# Altium footprint library Flow_Pump.PcbLib: 52 footprints (part 1 of 4)
Each footprint in its own frame and in the unit in brackets; x right, y up, seen from the top. Pads: shape width x height; smd on the part's side, far side on the other; paste and mask are expansions set on the pad; w line width, h text height; cw(c..) or ccw(c..) is an arc to the next point about the centre after c.
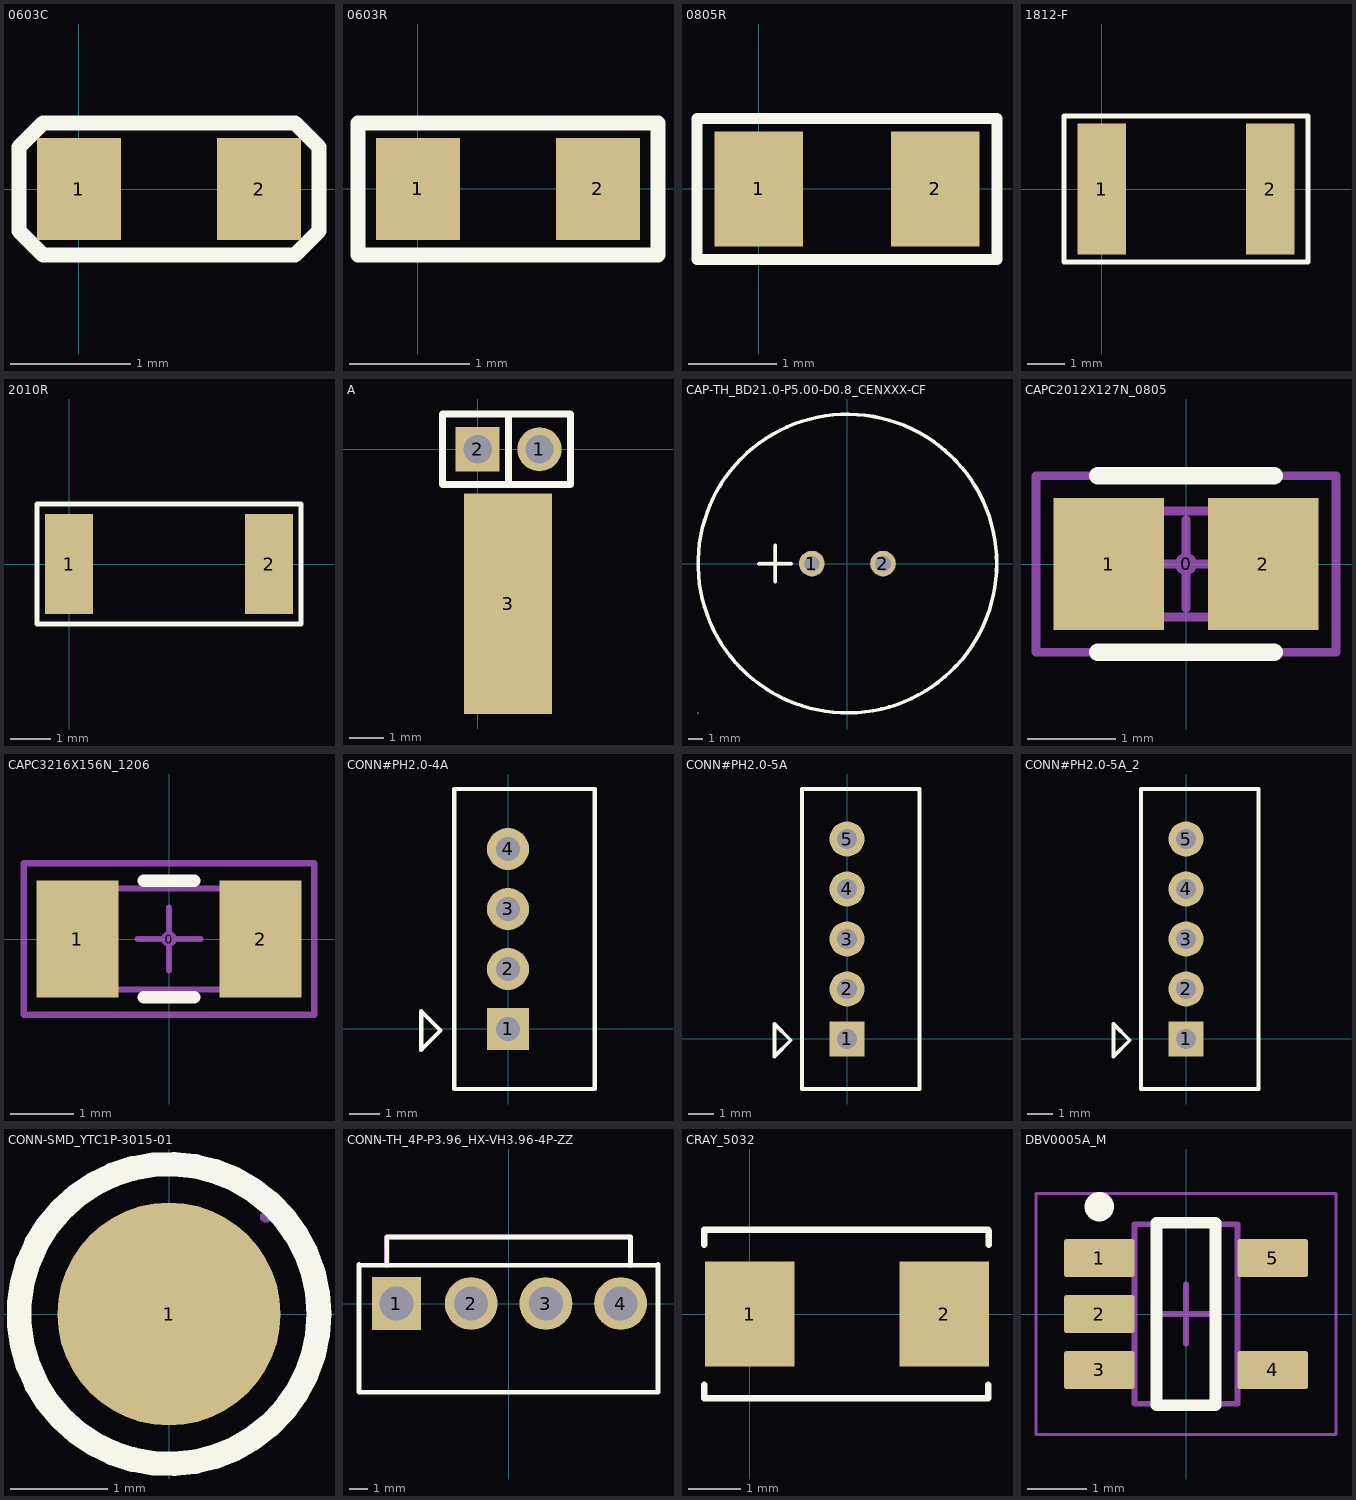
[diagram p0: the footprints below, top view; thin cyan lines are the x and y axes]

## 0603C [mm]
height 0.7
pads (2):
  rect 0.7x0.85 smd: 1(0,0) 2(1.5,0)
Top Overlay:
  lines w0.127: -0.5,-0.35 -0.3,-0.55 1.8,-0.55 2,-0.35 2,0.35 1.8,0.55 -0.3,0.55 -0.5,0.35 -0.5,-0.35

## 0603R [mm]
pads (2):
  rect 0.7x0.85 smd: 1(0,0) 2(1.5,0)
Top Overlay:
  lines w0.127: -0.5,-0.55 2,-0.55 2,0.55 -0.5,0.55 -0.5,-0.55

## 0805R [mm]
pads (2):
  rect 1x1.3 smd: 1(0,0) 2(2,0)
Top Overlay:
  lines w0.127: -0.7,-0.8 2.7,-0.8 2.7,0.8 -0.7,0.8 -0.7,-0.8 ; 2.45,-0.8 2.45,-0.8

## 1812-F [mm]
pads (2):
  rect 1.3x3.5 smd: 1(0,0) 2(4.5,0)
Top Overlay:
  lines w0.127: -1,-1.95 -1,1.95 5.5,1.95 5.5,-1.95 -1,-1.95

## 2010R [mm]
height 0.6
pads (2):
  rect 1.2x2.5 smd: 1(0,0) 2(5,0)
Top Overlay:
  lines w0.127: -0.8,-1.5 5.8,-1.5 5.8,1.5 -0.8,1.5 -0.8,-1.5

## A [mil]
height 29.53
pads (3):
  round 50 hole 32: 1(70,0)
  rect 50x50 hole 32: 2(0,0)
  rect 100x250 smd: 3(34.37,-175)
Top Overlay:
  lines w8: 35,-40 35,40 ; -40,-40 105,-40 105,40 -40,40 -40,-40

## CAP-TH_BD21.0-P5.00-D0.8_CENXXX-CF [mm]
height 0.75
pads (2):
  round 1.8 hole 1.1 paste+0 mask+0.05: 1(-2.5,0) 2(2.5,0)
Top Overlay:
  circle w0.254: c0,0 r10.5
  lines w0.254: -6.223,0 -3.937,0 ; -5.08,-1.27 -5.08,1.27
Mechanical 6:
  region: -6.223,-0.127 -6.223,0.127 -5.207,0.127 -5.207,1.27 -4.953,1.27 -4.953,0.127 -3.937,0.127 -3.937,-0.127 -4.953,-0.127 -4.953,-1.27 -5.207,-1.27 -5.207,-0.127
Mechanical 15:
  region: 2.9,0 2.899,0.079 2.838,0.225 2.726,0.337 2.579,0.397 2.421,0.397 2.274,0.337 2.162,0.225 2.101,0.079 2.1,0 2.101,-0.079 2.162,-0.225 2.274,-0.337 2.421,-0.397 2.579,-0.397 2.726,-0.337 2.838,-0.225 2.899,-0.079 2.9,0
  region: -2.1,0 -2.101,0.079 -2.162,0.225 -2.274,0.337 -2.421,0.397 -2.579,0.397 -2.726,0.337 -2.838,0.225 -2.899,0.079 -2.9,0 -2.899,-0.079 -2.838,-0.225 -2.725,-0.337 -2.579,-0.397 -2.421,-0.397 -2.274,-0.337 -2.162,-0.225 -2.101,-0.079 -2.1,0
  region: -10.44,-10.516 -10.44,-10.491 -10.475,-10.456 -10.525,-10.456 -10.56,-10.492 -10.56,-10.516 -10.56,-10.541 -10.525,-10.576 -10.475,-10.576 -10.44,-10.541 -10.44,-10.516
  lines w0.051: -10.5,0 cw(c0,0.016) 10.5,0 cw(c0,-0.016) -10.5,0

## CAPC2012X127N_0805 [mm] "Chip Capacitor, 0805"
height 1.27
pads (3):
  round 0.254 on Mech3: 0(0,0)
  rect 1.25x1.5 smd: 1(-0.875,0) 2(0.875,0)
Top Overlay:
  lines w0.2: -1,-1 1,-1 ; -1,1 1,1
Mechanical 10:
  lines w0.1: -1,-0.6 1,-0.6 1,0.6 -1,0.6 -1,-0.6
  text ".Designator" at -0.85,-0.25 h0.5
Mechanical 12:
  lines w0.1: -1,-0.6 -1,0.6 1,0.6 1,-0.6 -1,-0.6
Mechanical 14:
  lines w0.1: -0.5,0 0.5,0 ; 0,-0.5 0,0.5 ; -1.7,-1 -1.7,1 1.7,1 1.7,-1 -1.7,-1
3D body "CAPC2012X127N EIA 0805.step": height 1.27, standoff 0, extent -1,-0.6 1,0.6

## CAPC3216X156N_1206 [mm] "Chip Capacitor, 1206"
height 1.56
pads (3):
  round 0.254 on Mech3: 0(0,0)
  rect 1.3x1.85 smd: 1(-1.45,0) 2(1.45,0)
Top Overlay:
  lines w0.2: -0.4,-0.925 0.4,-0.925 ; -0.4,0.925 0.4,0.925
Mechanical 10:
  lines w0.1: -1.6,-0.8 -1.6,0.8 1.6,0.8 1.6,-0.8 -1.6,-0.8
  text ".Designator" at -1.35,-0.4 h0.8
Mechanical 12:
  lines w0.1: -1.6,-0.8 1.6,-0.8 1.6,0.8 -1.6,0.8 -1.6,-0.8
Mechanical 14:
  lines w0.1: -0.5,0 0.5,0 ; 0,-0.5 0,0.5 ; -2.3,-1.2 2.3,-1.2 2.3,1.2 -2.3,1.2 -2.3,-1.2
3D body "CAPC3216X152N EIA 1206.step": height 1.52, standoff 0, extent -1.6,-0.8 1.6,0.8

## CONN#PH2.0-4A [mm]
height 6
pads (4):
  rect 1.4x1.4 / inner round 1.2 / far side rect 1.4x1.4 hole 0.8: 1(0,0)
  round 1.4 / inner round 1.2 / far side round 1.4 hole 0.8: 2(0,2) 3(0,4) 4(0,6)
Top Overlay:
  lines w0.15: -2.9,-0.7 -2.9,0.6 -2.25,-0.05 -2.9,-0.7 ; -1.8,-2 2.9,-2 2.9,8 -1.8,8 -1.8,-2
3D body "PH2.0-LI-4P.STEP": height 6.01, standoff -2.99, extent -1.7,-1.95 3,7.95

## CONN#PH2.0-5A [mm]
height 6
pads (5):
  rect 1.4x1.4 / inner round 1.2 / far side rect 1.4x1.4 hole 0.8: 1(0,0)
  round 1.4 / inner round 1.2 / far side round 1.4 hole 0.8: 2(0,2) 3(0,4) 4(0,6) 5(0,8)
Top Overlay:
  lines w0.15: -2.9,-0.7 -2.25,-0.05 -2.9,0.6 -2.9,-0.7 ; -1.8,-2 -1.8,10 2.9,10 2.9,-2 -1.8,-2
3D body "PH2.0-LI-5P.STEP": height 6.01, standoff -2.99, extent -1.7,-1.95 3,9.95

## CONN#PH2.0-5A_2 [mm]
pads (5):
  rect 1.4x1.4 / inner round 1.2 / far side rect 1.4x1.4 hole 0.8: 1(0,0)
  round 1.4 / inner round 1.2 / far side round 1.4 hole 0.8: 2(0,2) 3(0,4) 4(0,6) 5(0,8)
Top Overlay:
  lines w0.15: -2.9,-0.7 -2.25,-0.05 -2.9,0.6 -2.9,-0.7 ; -1.8,-2 -1.8,10 2.9,10 2.9,-2 -1.8,-2
3D body "PH2.0-LI-5P.STEP": height 6.01, standoff -2.99, extent -1.7,-1.95 3,9.95

## CONN-SMD_YTC1P-3015-01 [mm]
pads (1):
  round 2.3 smd paste+0 mask+0.05: 1(0,0)
Top Overlay:
  circle w0.254: c0,0 r1.545
Mechanical 15:
  region: 1.06,1 1.059,1.024 1.024,1.058 0.976,1.058 0.941,1.024 0.94,1 0.941,0.976 0.976,0.943 1.024,0.942 1.059,0.976
  region: 1,0 0.999,0.131 0.93,0.384 0.798,0.61 0.612,0.795 0.384,0.925 0.131,0.993 -0.131,0.993 -0.384,0.925 -0.612,0.795 -0.798,0.61 -0.93,0.384 -0.999,0.131 -1,0 -0.999,-0.131 -0.93,-0.384 -0.798,-0.61 -0.612,-0.795 -0.384,-0.925 -0.131,-0.993 0.131,-0.993 0.384,-0.925 0.612,-0.795 0.798,-0.61 0.93,-0.384 0.999,-0.131
  lines w0.051: -1,0 ccw(c0,0) 1,0 ccw(c0,0) -1,0

## CONN-TH_4P-P3.96_HX-VH3.96-4P-ZZ [mm]
pads (4):
  rect 2.6x2.8 hole 1.8 paste+0 mask+0.05: 1(-5.94,0)
  round 2.8 hole 1.8 copper offset 0,0 paste+0 mask+0.05: 2(-1.98,0)
  round 2.8 hole 1.8 paste+0 mask+0.05: 3(1.98,0) 4(5.94,0)
Top Overlay:
  lines w0.254: -7.92,2.032 -6.46,2.032 ; -7.92,2.073 -7.92,-4.699 7.92,-4.699 7.92,2.064 ; 7.92,2.032 6.46,2.032 ; -6.46,2.032 -6.46,3.52 6.46,3.52 6.46,3.02 6.46,2.032 ; -6.46,2.032 6.46,2.032
Mechanical 2:
  region: 6.333,2.032 6.333,3.02 6.333,3.393 -6.333,3.393 -6.333,2.032 -6.333,1.979 -6.407,1.905 -6.513,1.905 -6.587,1.979 -6.587,2.032 -6.587,3.52 -6.587,3.545 -6.568,3.592 -6.532,3.628 -6.485,3.647 -6.46,3.647 6.46,3.647 6.485,3.647 6.532,3.628 6.568,3.592 6.587,3.545 6.587,3.52 6.587,3.02 6.587,2.032 6.587,1.979 6.513,1.905 6.407,1.905 6.333,1.979 6.333,2.032
Mechanical 6:
  lines w0.051: -6.456,3.52 6.46,3.52 ; -6.456,3.52 -6.456,3.52 ; -6.456,3.52 -6.456,2.036 -6.46,2.032 -7.92,2.032 -7.92,-4.699 7.92,-4.699 7.92,2.064 6.492,2.064 6.46,2.032 6.46,3.52 ; 6.46,3.52 6.46,3.52
Mechanical 8:
  region: -7.86,-4.699 -7.86,-4.724 -7.895,-4.759 -7.945,-4.759 -7.98,-4.724 -7.98,-4.699 -7.98,-4.674 -7.945,-4.639 -7.895,-4.639 -7.86,-4.674 -7.86,-4.699
Mechanical 9:
  region: 5.37,0.57 6.51,0.57 6.51,-0.57 5.37,-0.57
  region: 1.41,0.57 2.55,0.57 2.55,-0.57 1.41,-0.57
  region: -2.55,0.57 -1.41,0.57 -1.41,-0.57 -2.55,-0.57
  region: -6.51,0.57 -5.37,0.57 -5.37,-0.57 -6.51,-0.57

## CRAY_5032 [mm]
pads (2):
  rect 1.7x2 smd: 1(0,0) 2(3.7,0)
Top Overlay:
  lines w0.125: -0.864,-1.346 -0.864,-1.6 4.536,-1.6 4.536,-1.346 ; -0.864,1.321 -0.864,1.6 4.536,1.6 ; 4.547,1.321 4.547,1.575

## DBV0005A_M [mm] "SOT23, 5-Leads, Body 3.05x1.75mm, Pitch 0.95mm, IPC Low Density"
height 1.45
pads (5):
  rrect15% 1.2x0.65 smd: 1(-1.475,0.95) 2(-1.475,0) 3(-1.475,-0.95) 4(1.475,-0.95) 5(1.475,0.95)
Top Overlay:
  circle w0.25: c-1.475,1.825 r0.125
  lines w0.2: -0.5,-1.55 0.5,-1.55 0.5,1.55 -0.5,1.55 -0.5,-1.55
Mechanical 13:
  lines w0.1: -0.875,-1.525 0.875,-1.525 0.875,1.525 -0.875,1.525 -0.875,-1.525
Mechanical 15:
  lines w0.05: -2.55,-2.05 2.55,-2.05 2.55,2.05 -2.55,2.05 -2.55,-2.05
  lines w0.1: -0.5,0 0.5,0 ; 0,-0.5 0,0.5
3D body "DBV0005AaksMF05A.stp": height 1.08, standoff -0.01, extent -1.422,-1.461 1.422,1.46